# EAGLE library part 74HC32 (library 6502-shield)
74hc32 CMOS Quad 2-input OR gate
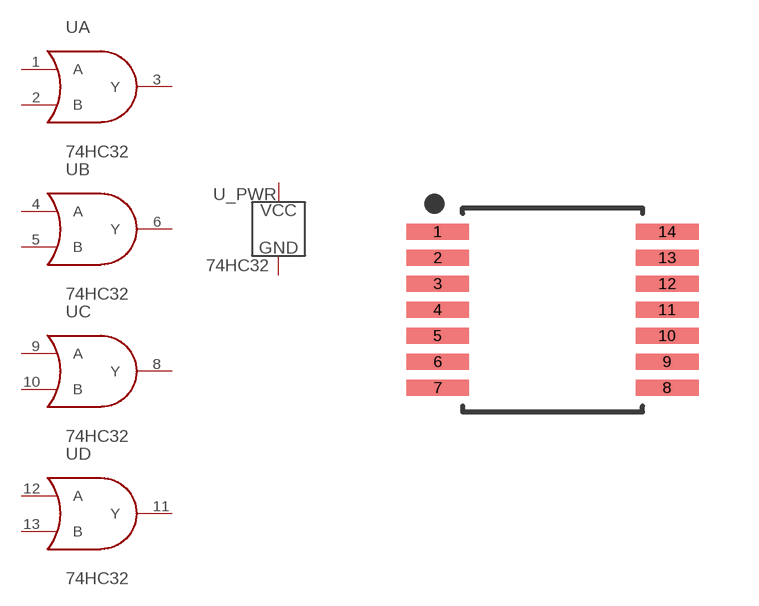
[diagram p4: symbol with the pads of SOP65P640X110-14N; footprint SOP65P640X110-14N]

Designator prefix U; gates A=74HC32 B=74HC32 C=74HC32 D=74HC32 _PWR=IC-PWR

## 74HC32TSSOP-14  [SOP65P640X110-14N]
1  A:A
2  A:B
3  A:Y
4  B:A
5  B:B
6  B:Y
7  _PWR:GND
8  C:Y
9  C:A
10  C:B
11  D:Y
12  D:A
13  D:B
14  _PWR:VCC

## Footprint SOP65P640X110-14N (pad centres in mm)
14-SOP, 0.65 mm pitch, 6.40 mm span, 5.00 X 4.40 X 1.10 mm body 14-pin SOP package with 0.65 mm pitch, 6.40 mm span with body size 5.00 X 4.40 X 1.10 mm
smd 1.572 x 0.407: 1 -2.872,1.95; 2 -2.872,1.3; 3 -2.872,0.65; 4 -2.872,0; 5 -2.872,-0.65; 6 -2.872,-1.3; 7 -2.872,-1.95; 8 2.872,-1.95; 9 2.872,-1.3; 10 2.872,-0.65; 11 2.872,0; 12 2.872,0.65; 13 2.872,1.3; 14 2.872,1.95